# EAGLE library part 1-1571999-6 (library Switches)
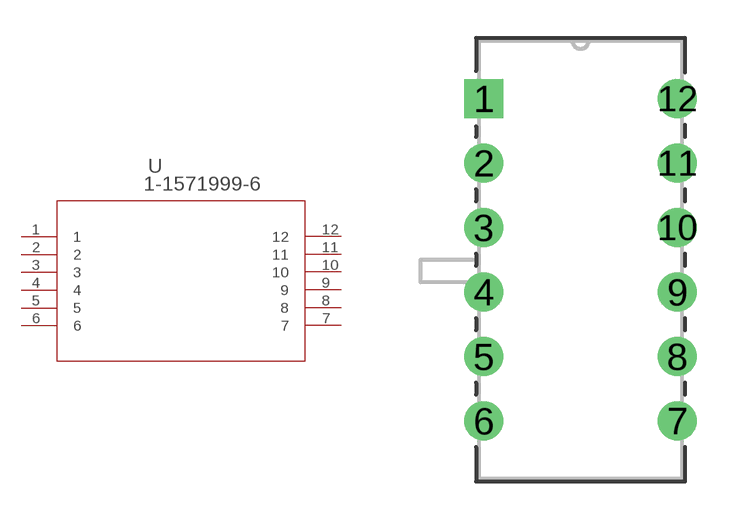
[diagram p16: symbol with the pads of SWITCH_1-1571999-6; footprint SWITCH_1-1571999-6]

Designator prefix U

## 1-1571999-6 (BUILT_BY: EMA_UL_Team; CATEGORY: DIP & SIP Switches; COPYRIGHT: Copyright (C) 2016 Accelerated Designs. All rights reserved; DESCRIPTION: ADP0604=PIANO DIP SWITCH; MANUFACTURER_PART_NUMBER: 1-1571999-6; PART_STATUS: active; SERIES: Alcoswitch DIP,Alcoswitch DIP ADP & ADPA; VENDOR: TE Connectivity)  [SWITCH_1-1571999-6]
1  1  pas
2  2  pas
3  3  pas
4  4  pas
5  5  pas
6  6  pas
7  7  pas
8  8  pas
9  9  pas
10  10  pas
11  11  pas
12  12  pas

## Footprint SWITCH_1-1571999-6 (pad centres in mm)
drill 1.016 pad 1.524 square: 1 -7.62,12.7
drill 1.016 pad 1.524: 2 -7.62,10.16; 3 -7.62,7.62; 4 -7.62,5.08; 5 -7.62,2.54; 6 -7.62,0; 7 0,0; 8 0,2.54; 9 0,5.08; 10 0,7.62; 11 0,10.16; 12 0,12.7